# Altium footprint library TestScript.PcbLib: 4 footprints
Each footprint in its own frame and in the unit in brackets; x right, y up, seen from the top. Pads: shape width x height; smd on the part's side, far side on the other; paste and mask are expansions set on the pad; w line width, h text height; cw(c..) or ccw(c..) is an arc to the next point about the centre after c.
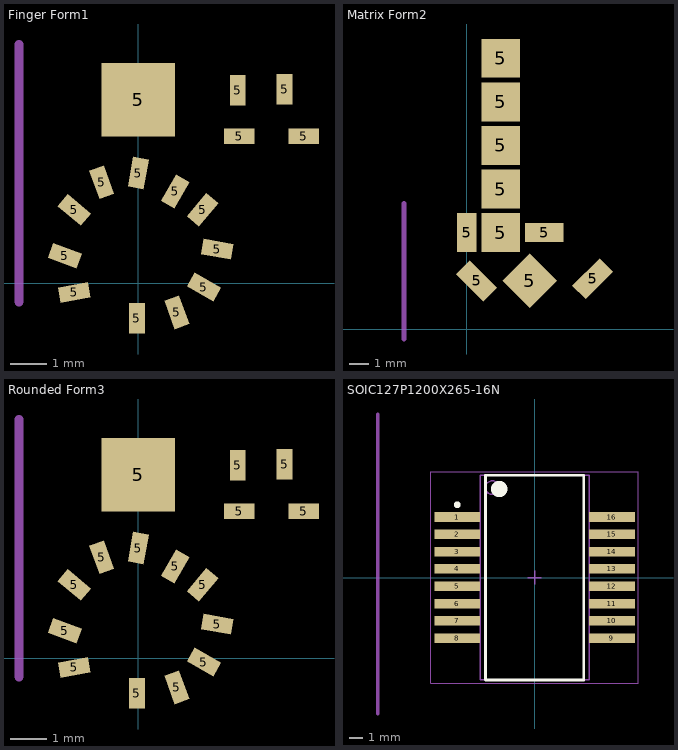
[diagram p0: the footprints below, top view; thin cyan lines are the x and y axes]

## Finger Form1 [mm]
pads (16):
  rect 0.83x0.43 smd rot 160 paste-2539: 5(-2,0.75)
  rect 0.83x0.43 smd rot 10 paste-2539: 5(-1.75,-0.25)
  rect 0.83x0.43 smd rot 140 paste-2539: 5(-1.75,2)
  rect 0.83x0.43 smd rot 110 paste-2539: 5(-1,2.75) 5(1.047,-0.79)
  rect 0.43x0.83 smd paste-2539: 5(-0.04,-0.953) 5(2.704,5.256) 5(3.979,5.286)
  rect 0.83x0.43 smd rot 80 paste-2539: 5(0,3)
  rect 2x2 smd paste-2539: 5(0,5)
  rect 0.83x0.43 smd rot 60 paste-2539: 5(1,2.5)
  rect 0.83x0.43 smd rot 50 paste-2539: 5(1.75,2)
  rect 0.83x0.43 smd rot 150 paste-2539: 5(1.781,-0.102)
  rect 0.83x0.43 smd rot 170 paste-2539: 5(2.149,0.93)
  rect 0.83x0.43 smd paste-2539: 5(2.75,4) 5(4.5,4)
Top Paste:
  drawing of 16 lines, arcs and shapes, not listed
Top Designator:
  text ".Designator" at -1.25,1 h0.5
Top Value:
  text ".Comment" at -1.25,-1.25 h0.5
Mechanical 23:
  lines w0.254: -3.25,-0.5 -3.25,6.5

## Matrix Form2 [mm]
pads (10):
  rect 1x2 smd paste-2539: 5(0,5)
  rect 1x2 smd rot 45 paste-2539: 5(0.5,2.5)
  rect 2x2 smd paste-2539: 5(1.748,14.001) 5(1.75,5) 5(1.75,7.25) 5(1.75,9.5) 5(1.75,11.75)
  rect 2x2 smd rot 135 paste-2539: 5(3.25,2.5)
  rect 2x1 smd paste-2539: 5(4,5)
  rect 2x1 smd rot 45 paste-2539: 5(6.5,2.616)
Top Paste:
  drawing of 80 lines, arcs and shapes, not listed
Top Designator:
  text ".Designator" at -1.25,1 h0.5
Top Value:
  text ".Comment" at -1.25,-1.25 h0.5
Mechanical 23:
  lines w0.254: -3.25,-0.5 -3.25,6.5

## Rounded Form3 [mm]
pads (16):
  rect 0.83x0.43 smd rot 160 paste-2539: 5(-2,0.75)
  rect 0.83x0.43 smd rot 10 paste-2539: 5(-1.75,-0.25)
  rect 0.83x0.43 smd rot 140 paste-2539: 5(-1.75,2)
  rect 0.83x0.43 smd rot 110 paste-2539: 5(-1,2.75) 5(1.047,-0.79)
  rect 0.43x0.83 smd paste-2539: 5(-0.04,-0.953) 5(2.704,5.256) 5(3.979,5.286)
  rect 0.83x0.43 smd rot 80 paste-2539: 5(0,3)
  rect 2x2 smd paste-2539: 5(0,5)
  rect 0.83x0.43 smd rot 60 paste-2539: 5(1,2.5)
  rect 0.83x0.43 smd rot 50 paste-2539: 5(1.75,2)
  rect 0.83x0.43 smd rot 150 paste-2539: 5(1.781,-0.102)
  rect 0.83x0.43 smd rot 170 paste-2539: 5(2.149,0.93)
  rect 0.83x0.43 smd paste-2539: 5(2.75,4) 5(4.5,4)
Top Paste:
  drawing of 16 lines, arcs and shapes, not listed
Top Designator:
  text ".Designator" at -1.25,1 h0.5
Top Value:
  text ".Comment" at -1.25,-1.25 h0.5
Mechanical 23:
  lines w0.254: -3.25,-0.5 -3.25,6.5

## SOIC127P1200X265-16N [mm] "SOIC, 16-Leads, Body 15,00x8,00mm, Pitch 1,27mm, IPC Medium Density"
height 2.65
pads (16):
  rect 3.35x0.7 smd paste-2539: 1(-5.675,4.445) 2(-5.675,3.175) 3(-5.675,1.905) 4(-5.675,0.635) 16(5.675,4.445)
  rect 3.35x0.7 smd paste-200: 5(-5.675,-0.635) 6(-5.675,-1.905) 7(-5.675,-3.175) 8(-5.675,-4.445) 9(5.675,-4.445) 10(5.675,-3.175) 11(5.675,-1.905) 12(5.675,-0.635) 13(5.675,0.635) 14(5.675,1.905) 15(5.675,3.175)
Top Overlay:
  circle w0.25: c-5.675,5.345 r0.125
  circle w0.6: c-2.6,6.5 r0.3
  lines w0.2: -3.6,-7.5 -3.6,7.5 3.6,7.5 3.6,-7.5 -3.6,-7.5
Top Paste:
  drawing of 13 lines, arcs and shapes, not listed
Top Assembly:
  circle w0.1: c-3.1,6.6 r0.5
  lines w0.1: -4,-7.5 -4,7.5 4,7.5 4,-7.5 -4,-7.5
Top Courtyard:
  lines w0.05: -7.6,-7.75 -7.6,7.75 7.6,7.75 7.6,-7.75 -7.6,-7.75
  lines w0.1: -0.5,0 0.5,0 ; 0,-0.5 0,0.5
Mechanical 23:
  lines w0.254: -11.5,-10 -11.5,12
3D body: height 2.65, standoff 0.1, extent -4,-7.5 4,7.5